# Altium footprint library Philips Discrete Diode - Schottky.PcbLib: 24 footprints (part 2 of 2)
Each footprint in its own frame and in the unit in brackets; x right, y up, seen from the top. Pads: shape width x height; smd on the part's side, far side on the other; paste and mask are expansions set on the pad; w line width, h text height; cw(c..) or ccw(c..) is an arc to the next point about the centre after c.
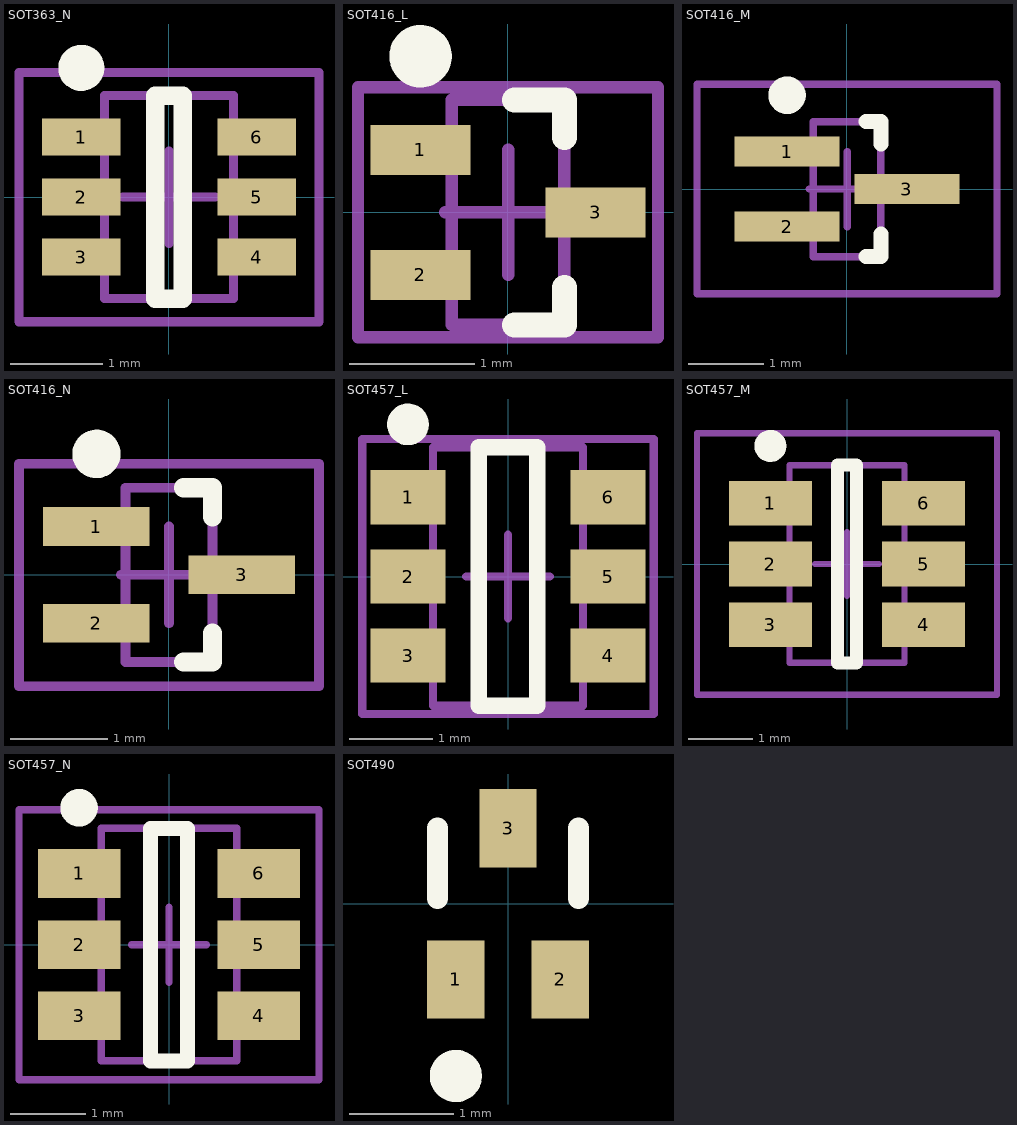
[diagram p1: the footprints below, top view; thin cyan lines are the x and y axes]

## SOT363_N [mm] "SOT363, 6-Leads, Body 2x1.3mm, Pitch 0.65mm, Lead Span 2.1mm, IPC Medium Density"
height 1.1
pads (6):
  rect 0.85x0.4 smd: 1(-0.95,0.65) 2(-0.95,0) 3(-0.95,-0.65) 4(0.95,-0.65) 5(0.95,0) 6(0.95,0.65)
Top Overlay:
  circle w0.25: c-0.95,1.4 r0.125
  lines w0.2: -0.15,-1.1 0.15,-1.1 0.15,1.1 -0.15,1.1 -0.15,-1.1
Mechanical 13:
  lines w0.1: -0.7,-1.1 -0.7,1.1 0.7,1.1 0.7,-1.1 -0.7,-1.1
Mechanical 15:
  lines w0.1: -0.5,0 0.5,0 ; 0,-0.5 0,0.5 ; -1.625,-1.35 -1.625,1.35 1.625,1.35 1.625,-1.35 -1.625,-1.35
3D body: height 1.1, standoff 0, extent -0.7,-1.1 0.7,1.1

## SOT416_L [mm] "SOT416, 3-Leads, Body 1.6x0.8mm, Pitch 0.50mm, Lead Span 1.6mm, IPC High Density"
height 0.95
pads (3):
  rect 0.8x0.4 smd: 1(-0.7,0.5) 2(-0.7,-0.5) 3(0.7,0)
Top Overlay:
  circle w0.25: c-0.7,1.25 r0.125
  lines w0.2: 0.05,-0.9 0.45,-0.9 0.45,-0.6 ; 0.05,0.9 0.45,0.9 0.45,0.6
Mechanical 13:
  lines w0.1: -0.45,-0.9 0.45,-0.9 0.45,0.9 -0.45,0.9 -0.45,-0.9
Mechanical 15:
  lines w0.1: -0.5,0 0.5,0 ; 0,-0.5 0,0.5 ; -1.2,-1 1.2,-1 1.2,1 -1.2,1 -1.2,-1
3D body: height 0.95, standoff 0, extent -0.45,-0.9 0.45,0.9

## SOT416_M [mm] "SOT416, 3-Leads, Body 1.6x0.8mm, Pitch 0.50mm, Lead Span 1.6mm, IPC Low Density"
height 0.95
pads (3):
  rect 1.4x0.4 smd: 1(-0.8,0.5) 2(-0.8,-0.5) 3(0.8,0)
Top Overlay:
  circle w0.25: c-0.8,1.25 r0.125
  lines w0.2: 0.25,-0.9 0.45,-0.9 0.45,-0.6 ; 0.25,0.9 0.45,0.9 0.45,0.6
Mechanical 13:
  lines w0.1: -0.45,-0.9 0.45,-0.9 0.45,0.9 -0.45,0.9 -0.45,-0.9
Mechanical 15:
  lines w0.1: -0.5,0 0.5,0 ; 0,-0.5 0,0.5 ; -2,-1.4 2,-1.4 2,1.4 -2,1.4 -2,-1.4
3D body: height 0.95, standoff 0, extent -0.45,-0.9 0.45,0.9

## SOT416_N [mm] "SOT416, 3-Leads, Body 1.6x0.8mm, Pitch 0.50mm, Lead Span 1.6mm, IPC Medium Density"
height 0.95
pads (3):
  rect 1.1x0.4 smd: 1(-0.75,0.5) 2(-0.75,-0.5) 3(0.75,0)
Top Overlay:
  circle w0.25: c-0.75,1.25 r0.125
  lines w0.2: 0.15,-0.9 0.45,-0.9 0.45,-0.6 ; 0.15,0.9 0.45,0.9 0.45,0.6
Mechanical 13:
  lines w0.1: -0.45,-0.9 0.45,-0.9 0.45,0.9 -0.45,0.9 -0.45,-0.9
Mechanical 15:
  lines w0.1: -0.5,0 0.5,0 ; 0,-0.5 0,0.5 ; -1.55,-1.15 1.55,-1.15 1.55,1.15 -1.55,1.15 -1.55,-1.15
3D body: height 0.95, standoff 0, extent -0.45,-0.9 0.45,0.9

## SOT457_L [mm] "SOT23, 6-Leads, Body 2.9x1.5mm, Pitch 0.95mm, Lead Span 2.8mm, IPC High Density"
height 1.1
pads (6):
  rect 0.9x0.65 smd: 1(-1.2,0.95) 2(-1.2,0) 3(-1.2,-0.95) 4(1.2,-0.95) 5(1.2,0) 6(1.2,0.95)
Top Overlay:
  circle w0.25: c-1.2,1.825 r0.125
  lines w0.2: -0.35,-1.55 0.35,-1.55 0.35,1.55 -0.35,1.55 -0.35,-1.55
Mechanical 13:
  lines w0.1: -0.9,-1.55 -0.9,1.55 0.9,1.55 0.9,-1.55 -0.9,-1.55
Mechanical 15:
  lines w0.1: -0.5,0 0.5,0 ; 0,-0.5 0,0.5 ; -1.75,-1.65 -1.75,1.65 1.75,1.65 1.75,-1.65 -1.75,-1.65
3D body: height 1.1, standoff 0, extent -0.9,-1.55 0.9,1.55

## SOT457_M [mm] "SOT23, 6-Leads, Body 2.9x1.5mm, Pitch 0.95mm, Lead Span 2.8mm, IPC Low Density"
height 1.1
pads (6):
  rect 1.3x0.7 smd: 1(-1.2,0.95) 2(-1.2,0) 3(-1.2,-0.95) 4(1.2,-0.95) 5(1.2,0) 6(1.2,0.95)
Top Overlay:
  circle w0.25: c-1.2,1.85 r0.125
  lines w0.2: -0.15,-1.55 0.15,-1.55 0.15,1.55 -0.15,1.55 -0.15,-1.55
Mechanical 13:
  lines w0.1: -0.9,-1.55 -0.9,1.55 0.9,1.55 0.9,-1.55 -0.9,-1.55
Mechanical 15:
  lines w0.1: -0.5,0 0.5,0 ; 0,-0.5 0,0.5 ; -2.35,-2.05 -2.35,2.05 2.35,2.05 2.35,-2.05 -2.35,-2.05
3D body: height 1.1, standoff 0, extent -0.9,-1.55 0.9,1.55

## SOT457_N [mm] "SOT23, 6-Leads, Body 2.9x1.5mm, Pitch 0.95mm, Lead Span 2.8mm, IPC Medium Density"
height 1.1
pads (6):
  rect 1.1x0.65 smd: 1(-1.2,0.95) 2(-1.2,0) 3(-1.2,-0.95) 4(1.2,-0.95) 5(1.2,0) 6(1.2,0.95)
Top Overlay:
  circle w0.25: c-1.2,1.825 r0.125
  lines w0.2: -0.25,-1.55 0.25,-1.55 0.25,1.55 -0.25,1.55 -0.25,-1.55
Mechanical 13:
  lines w0.1: -0.9,-1.55 -0.9,1.55 0.9,1.55 0.9,-1.55 -0.9,-1.55
Mechanical 15:
  lines w0.1: -0.5,0 0.5,0 ; 0,-0.5 0,0.5 ; -2,-1.8 -2,1.8 2,1.8 2,-1.8 -2,-1.8
3D body: height 1.1, standoff 0, extent -0.9,-1.55 0.9,1.55

## SOT490 [mm] "SC-89; 3 Flat Leads; Body 1.6 x 1.6 x 0.7 mm, inc leads (LxWxH typ)"
height 0.8
pads (3):
  rect 0.55x0.75 smd: 1(-0.5,-0.725) 2(0.5,-0.725) 3(0,0.725)
Top Overlay:
  circle w0.25: c-0.5,-1.65 r0.125
  lines w0.2: -0.676,0.05 -0.676,0.725 ; 0.675,0.05 0.675,0.725